# Altium footprint library SMA(DO-214AC)_S3.PcbLib: 1 footprints
Each footprint in its own frame and in the unit in brackets; x right, y up, seen from the top. Pads: shape width x height; smd on the part's side, far side on the other; paste and mask are expansions set on the pad; w line width, h text height; cw(c..) or ccw(c..) is an arc to the next point about the centre after c.
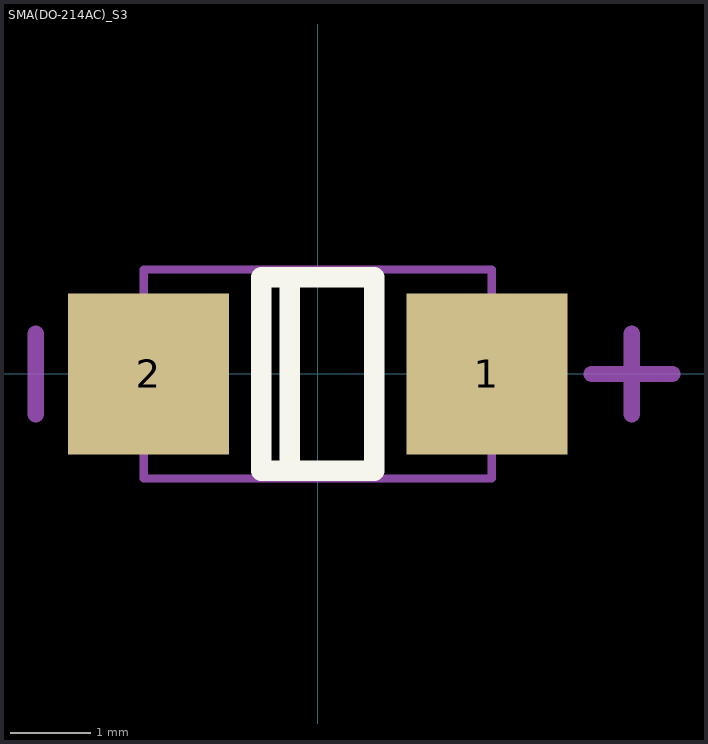
[diagram p0: the footprint, top view; thin cyan lines are the x and y axes]

## SMA(DO-214AC)_S3 [mm]
pads (2):
  rect 2x2 smd: 1(2.1,0) 2(-2.1,0)
Top Overlay:
  lines w0.254: -0.35,-1.2 -0.35,1.2 ; -0.7,-1.2 0.7,-1.2 0.7,1.2 -0.7,1.2 -0.7,-1.2
Mechanical 13:
  lines w0.1: -2.16,-1.3 2.16,-1.3 2.16,1.3 -2.16,1.3 -2.16,-1.3
Mechanical 15:
  lines w0.203: -3.5,-0.5 -3.5,0.5 ; 3.4,0 4.4,0 ; 3.9,-0.5 3.9,0.5